# Altium footprint library 0805_X2Y.PcbLib: 1 footprints
Each footprint in its own frame and in the unit in brackets; x right, y up, seen from the top. Pads: shape width x height; smd on the part's side, far side on the other; paste and mask are expansions set on the pad; w line width, h text height; cw(c..) or ccw(c..) is an arc to the next point about the centre after c.
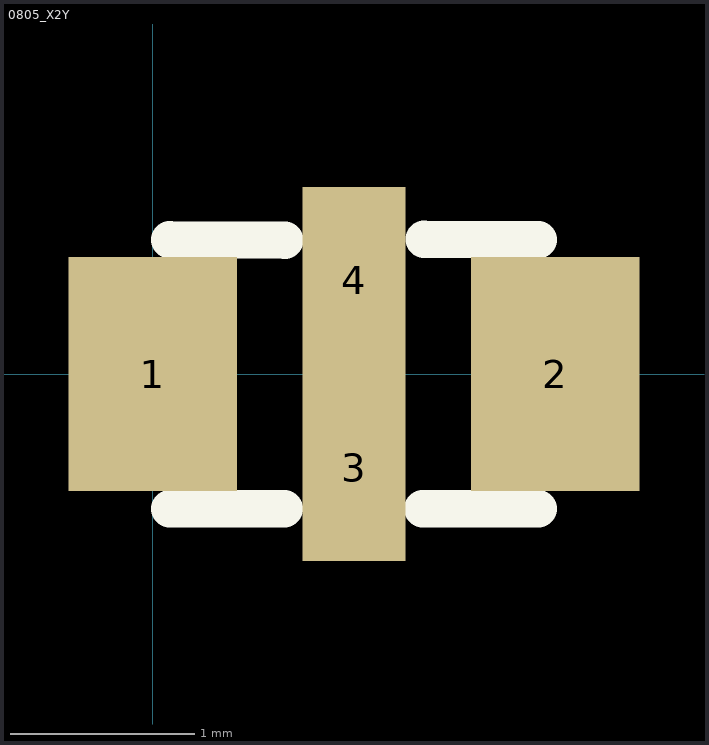
[diagram p0: the footprint, top view; thin cyan lines are the x and y axes]

## 0805_X2Y [mil]
height 32
pads (4):
  rect 36x50 smd: 1(0,0) 2(86.05,0)
  rect 22.1x40 smd: 3(43.03,-20) 4(43.03,20)
TopOverlay:
  lines w8: 3.66,-28.85 28.09,-28.77 ; 3.66,28.7 28.25,28.62 ; 57.77,-28.85 82.4,-28.85 ; 57.99,28.77 82.4,28.7
3D body: height 31.39, standoff 0.6, extent 3,-24.61 81.74,24.61